# Altium footprint library PcbLib1.PcbLib: 18 footprints (part 2 of 2)
Each footprint in its own frame and in the unit in brackets; x right, y up, seen from the top. Pads: shape width x height; smd on the part's side, far side on the other; paste and mask are expansions set on the pad; w line width, h text height; cw(c..) or ccw(c..) is an arc to the next point about the centre after c.
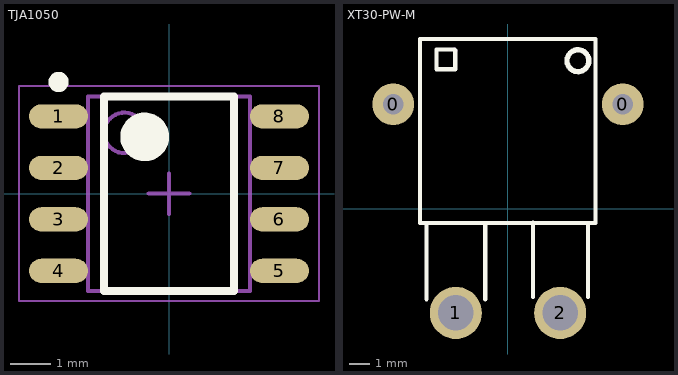
[diagram p1: the footprints below, top view; thin cyan lines are the x and y axes]

## TJA1050 [mm] "SOIC, 8-Leads, Body 4.90x3.90mm, Pitch 1.27mm, IPC Medium Density"
height 1.75
pads (8):
  oval 1.45x0.6 smd: 1(-2.725,1.905) 2(-2.725,0.635) 3(-2.725,-0.635) 4(-2.725,-1.905) 5(2.725,-1.905) 6(2.725,-0.635) 7(2.725,0.635) 8(2.725,1.905)
Top Overlay:
  circle w0.25: c-2.725,2.755 r0.125
  circle w0.6: c-0.6,1.4 r0.3
  lines w0.2: -1.6,-2.4 -1.6,2.4 1.6,2.4 1.6,-2.4 -1.6,-2.4
Top Assembly:
  circle w0.1: c-1.1,1.5 r0.5
  lines w0.1: -2,-2.4 -2,2.4 2,2.4 2,-2.4 -2,-2.4
Top Courtyard:
  lines w0.05: -3.7,-2.65 -3.7,2.65 3.7,2.65 3.7,-2.65 -3.7,-2.65
  lines w0.1: -0.5,0 0.5,0 ; 0,-0.5 0,0.5
3D body: height 1.75, standoff 0.1, extent -2,-2.4 2,2.4

## XT30-PW-M [mm]
pads (4):
  round 2 hole 1: 0(-5.5,5) 0(5.5,5)
  round 2.5 hole 1.7: 1(-2.5,-5) 2(2.5,-5)
Top Overlay:
  circle w0.254: c3.353,7.087 r0.524
  lines w0.2: -3.912,-4.343 -3.912,-0.686 ; -2.565,7.62 -3.429,7.62 -3.429,6.68 -2.525,6.68 -2.525,7.58 ; -1.092,-4.343 -1.092,-0.711 ; 1.194,-4.242 1.194,-3.346 1.194,-1.556 1.194,-0.66 ; 3.835,-4.242 3.835,-0.686 ; -4.216,-0.686 4.191,-0.686 4.191,8.128 -4.216,8.128 -4.216,-0.686
Mechanical 1:
  lines w0.2: -2.565,7.62 -2.525,7.58